# Altium integrated library AD780BRZ.IntLib: 1 symbol
Pins are listed as number, name and electrical type; pins without a type are passive.

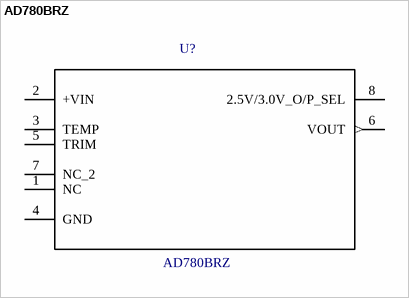
[diagram p0: symbol AD780BRZ]

## AD780BRZ
designator U?
Check_prices: https://www.snapeda.com/parts/AD780BRZ/Analog%20Devices%20Inc./view-part/11742/?ref=eda; SnapEDA_Link: https://www.snapeda.com/parts/AD780BRZ/Analog%20Devices%20Inc./view-part/11742/?ref=snap; Value: *
footprint *SOIC127P600X175-8N
pins: 1 NC, 2 +VIN (power), 3 TEMP, 4 GND, 5 TRIM, 6 VOUT (out), 7 NC_2, 8 2.5V/3.0V_O/P_SEL